# EAGLE library part RFM66W_69HCW_9XW (library hoperf)
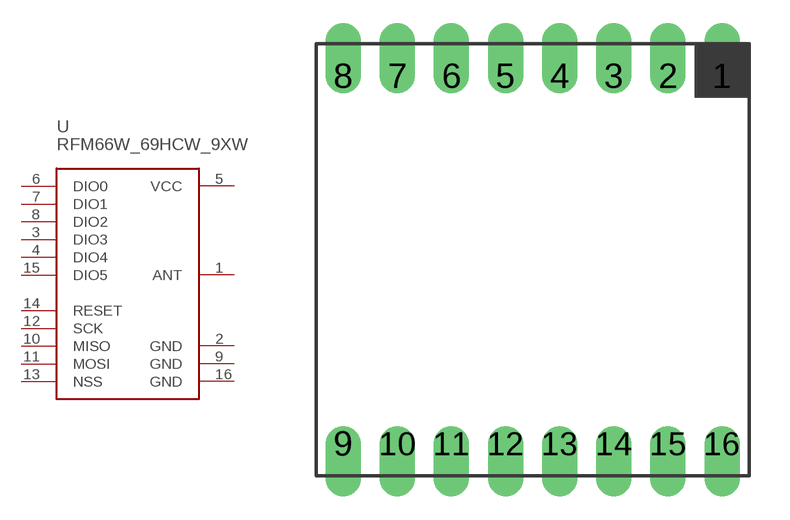
[diagram p1: symbol with the pads of MODULE_16X16_16PIN; footprint MODULE_16X16_16PIN]

Designator prefix -

## RFM66W_69HCW_9XW  [MODULE_16X16_16PIN]
1  ANT
2  GND
3  DIO3
4  DIO4
5  VCC
6  DIO0
7  DIO1
8  DIO2
9  GND
10  MISO
11  MOSI
12  SCK
13  NSS
14  RESET
15  DIO5
16  GND

## Footprint MODULE_16X16_16PIN (pad centres in mm)
drill 0.8 offset: 1 7,6.8; 2 5,6.8; 3 3,6.8; 4 1,6.8; 5 -1,6.8; 6 -3,6.8; 7 -5,6.8; 8 -7,6.8; 9 -7,-6.8; 10 -5,-6.8; 11 -3,-6.8; 12 -1,-6.8; 13 1,-6.8; 14 3,-6.8; 15 5,-6.8; 16 7,-6.8